# Altium footprint library PH2.0-SMD-6Pin.PcbLib: 1 footprints
Each footprint in its own frame and in the unit in brackets; x right, y up, seen from the top. Pads: shape width x height; smd on the part's side, far side on the other; paste and mask are expansions set on the pad; w line width, h text height; cw(c..) or ccw(c..) is an arc to the next point about the centre after c.
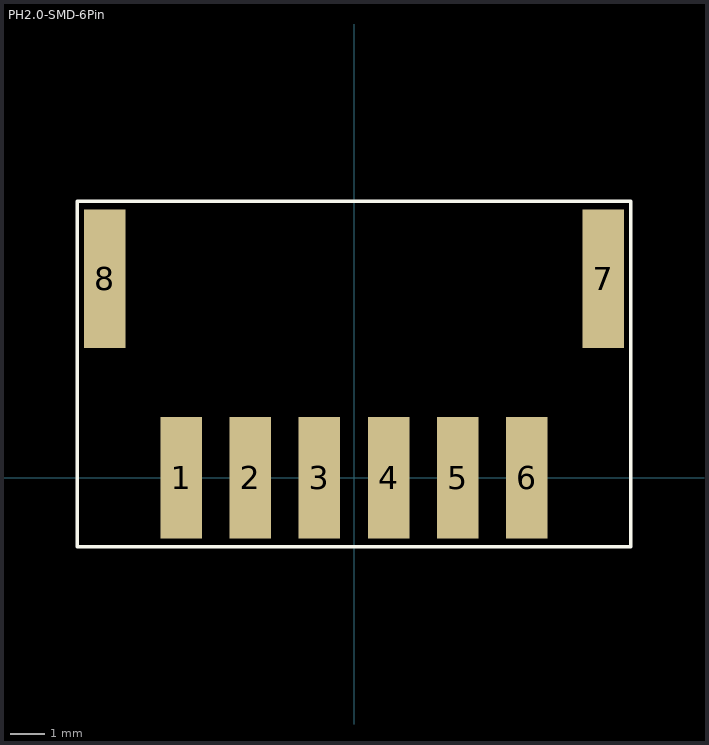
[diagram p0: the footprint, top view; thin cyan lines are the x and y axes]

## PH2.0-SMD-6Pin [mm]
height 0.5
pads (8):
  rect 1.2x3.5 smd: 1(-5,0) 2(-3,0) 3(-1,0) 4(1,0) 5(3,0) 6(5,0)
  rect 1.2x4 smd: 7(7.2,5.75) 8(-7.2,5.75)
Top Overlay:
  lines w0.1: -8,-2 -8,8 8,8 8,-2 -8,-2